# Altium footprint library PASSIVE_SMD.PCBLIB: 249 footprints (part 16 of 16)
Each footprint in its own frame and in the unit in brackets; x right, y up, seen from the top. Pads: shape width x height; smd on the part's side, far side on the other; paste and mask are expansions set on the pad; w line width, h text height; cw(c..) or ccw(c..) is an arc to the next point about the centre after c.
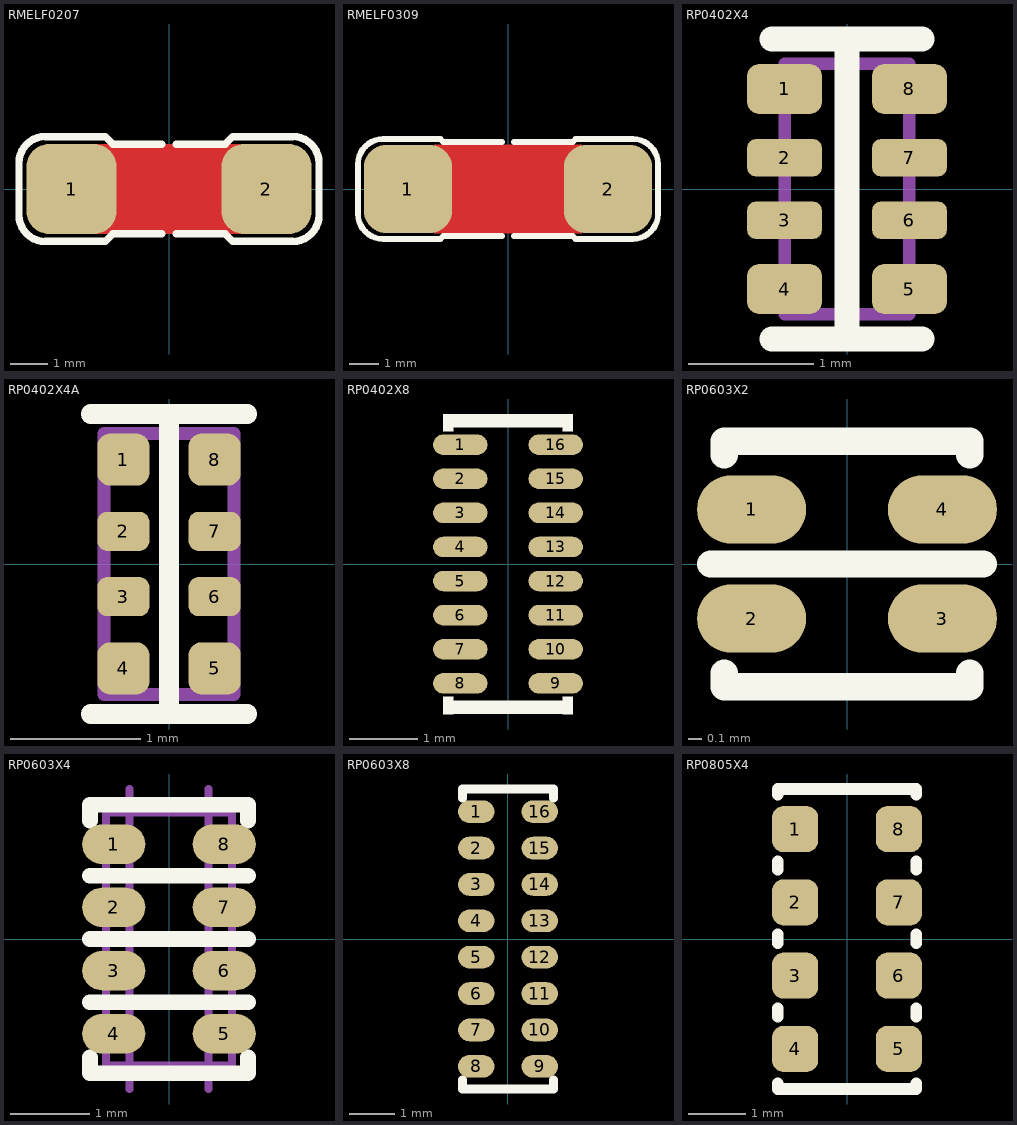
[diagram p15: the footprints below, top view; thin cyan lines are the x and y axes]

## RMELF0207 [mm] "RESISTOR, MELF 0207, as 2512, 1WATT, L5.9xD2.4mm"
height 2
pads (2):
  rrect50% 2.4x2.4 smd paste-1.2 mask+0.075: 1(-2.6,0) 2(2.6,0)
Top Layer:
  pour cut-out: -1.9,1.2 -1.9,-1.2 1.9,-1.2 1.9,1.2
Top Overlay:
  lines w0.2: -0.2,-1.2 -1.5,-1.2 -1.7,-1.4 -3.3,-1.4 cw(c-3.3,-0.7) -4,-0.7 -4,0.7 cw(c-3.3,0.7) -3.3,1.4 -1.7,1.4 -1.5,1.2 -0.2,1.2 ; 0.2,-1.2 1.5,-1.2 1.7,-1.4 3.3,-1.4 ccw(c3.3,-0.7) 4,-0.7 4,0.7 ccw(c3.3,0.7) 3.3,1.4 1.7,1.4 1.5,1.2 0.2,1.2
Top Paste:
  region: 3.2,1 2.6,1 2.502,1 2.308,0.962 2.126,0.886 1.963,0.777 1.823,0.637 1.714,0.474 1.638,0.292 1.6,0.098 1.6,0 1.6,-0.098 1.638,-0.292 1.714,-0.474 1.823,-0.637 1.963,-0.777 2.126,-0.886 2.308,-0.962 2.502,-1 2.6,-1 3.2,-1 3.28,-1 3.427,-0.939 3.539,-0.827 3.6,-0.68 3.6,-0.6 3.6,0.6 3.6,0.68 3.539,0.827 3.427,0.939 3.28,1
  region: -3.2,1 -2.6,1 -2.502,1 -2.308,0.962 -2.126,0.886 -1.963,0.777 -1.823,0.637 -1.714,0.474 -1.638,0.292 -1.6,0.098 -1.6,0 -1.6,-0.098 -1.638,-0.292 -1.714,-0.474 -1.823,-0.637 -1.963,-0.777 -2.126,-0.886 -2.308,-0.962 -2.502,-1 -2.6,-1 -3.2,-1 -3.28,-1 -3.427,-0.939 -3.539,-0.827 -3.6,-0.68 -3.6,-0.6 -3.6,0.6 -3.6,0.68 -3.539,0.827 -3.427,0.939 -3.28,1
Mechanical 15:
  lines w0.1: -0.5,0 0.5,0 ; 0,-0.5 0,0.5 ; -2.4,-1 -2.4,1 2.4,1 2.4,-1 -2.4,-1
3D body "MELF_0207-1.STEP": height 2.2, standoff 0, extent -2.65,-1.1 2.65,1.1

## RMELF0309 [mm] "RESISTOR, MELF 0309, 2WATT, L8.5xD3.4mm"
height 2
pads (2):
  rrect50% 3x3 smd paste-1.5 mask+0.075: 1(-3.4,0) 2(3.4,0)
Top Layer:
  pour cut-out: -2.5,1.5 -2.5,-1.5 2.5,-1.5 2.5,1.5
Top Overlay:
  lines w0.2: -0.2,-1.6 -2.2,-1.6 -2.3,-1.7 -4.25,-1.7 cw(c-4.25,-0.85) -5.1,-0.85 -5.1,0.85 cw(c-4.25,0.85) -4.25,1.7 -2.3,1.7 -2.2,1.6 -0.2,1.6 ; 0.2,-1.6 2.2,-1.6 2.3,-1.7 4.25,-1.7 ccw(c4.25,-0.85) 5.1,-0.85 5.1,0.85 ccw(c4.25,0.85) 4.25,1.7 2.3,1.7 2.2,1.6 0.2,1.6
Top Paste:
  region: -2.1,0 -2.1,0.128 -2.15,0.379 -2.248,0.616 -2.39,0.829 -2.571,1.01 -2.784,1.152 -3.021,1.25 -3.272,1.3 -3.4,1.3 -4,1.3 -4.069,1.3 -4.204,1.273 -4.332,1.22 -4.446,1.144 -4.544,1.046 -4.62,0.932 -4.673,0.804 -4.7,0.669 -4.7,0.6 -4.7,-0.6 -4.7,-0.669 -4.673,-0.804 -4.62,-0.932 -4.544,-1.046 -4.446,-1.144 -4.332,-1.22 -4.204,-1.273 -4.069,-1.3 -4,-1.3 -3.4,-1.3 -3.272,-1.3 -3.021,-1.25 -2.784,-1.152 -2.571,-1.01 -2.39,-0.829 -2.248,-0.616 -2.15,-0.379 -2.1,-0.128
  region: 2.1,0 2.1,0.128 2.15,0.379 2.248,0.616 2.39,0.829 2.571,1.01 2.784,1.152 3.021,1.25 3.272,1.3 3.4,1.3 4,1.3 4.069,1.3 4.204,1.273 4.332,1.22 4.446,1.144 4.544,1.046 4.62,0.932 4.673,0.804 4.7,0.669 4.7,0.6 4.7,-0.6 4.7,-0.669 4.673,-0.804 4.62,-0.932 4.544,-1.046 4.446,-1.144 4.332,-1.22 4.204,-1.273 4.069,-1.3 4,-1.3 3.4,-1.3 3.272,-1.3 3.021,-1.25 2.784,-1.152 2.571,-1.01 2.39,-0.829 2.248,-0.616 2.15,-0.379 2.1,-0.128
Mechanical 15:
  lines w0.1: -0.5,0 0.5,0 ; 0,-0.5 0,0.5 ; -2.4,-1 -2.4,1 2.4,1 2.4,-1 -2.4,-1
3D body "melf_res_0309.STEP": height 2.99, standoff 0.01, extent -4.25,-1.5 4.25,1.5

## RP0402X4 [mm] "RPACK, 0804, 0402X4, 100X50X4, 2.00x1.00mm"
height 0.4
pads (8):
  rrect50% 0.6x0.4 smd paste-0.05 mask+0.05: 1(-0.5,0.8) 4(-0.5,-0.8) 5(0.5,-0.8) 8(0.5,0.8)
  rrect50% 0.6x0.3 smd paste-0.05 mask+0.05: 2(-0.5,0.25) 3(-0.5,-0.25) 6(0.5,-0.25) 7(0.5,0.25)
Top Overlay:
  lines w0.2: -0.6,-1.2 0.6,-1.2 ; -0.6,1.2 0.6,1.2 ; 0,-1.1 0,1.1
Mechanical 13:
  lines w0.1: -0.5,-1 0.5,-1 0.5,1 -0.5,1 -0.5,-1
3D body "User Library-YC124-1.step": height 0.45, standoff 0, extent -0.5,-1 0.5,1

## RP0402X4A [mm] "RPACK, 0804, 0402X4, 100X50X4, 2.00x1.00mm"
height 0.4
pads (8):
  rrect50% 0.4x0.4 smd paste-0.05 mask+0.05: 1(-0.35,0.8) 4(-0.35,-0.8) 5(0.35,-0.8) 8(0.35,0.8)
  rrect50% 0.4x0.3 smd paste-0.05 mask+0.05: 2(-0.35,0.25) 3(-0.35,-0.25) 6(0.35,-0.25) 7(0.35,0.25)
Top Overlay:
  lines w0.15: -0.6,-1.15 0.6,-1.15 ; -0.6,1.15 0.6,1.15 ; 0,-1.1 0,1.1
Mechanical 13:
  lines w0.1: -0.5,-1 -0.5,1 0.5,1 0.5,-1 -0.5,-1
3D body "User Library-YC124-1.step": height 0.45, standoff 0, extent -0.5,-1 0.5,1

## RP0402X8 [mm] "RPACK, 0402X8, 4x1.6mm"
height 0.4
pads (16):
  oval 0.8x0.3 smd paste-0.05 mask+0.05: 1(-0.7,1.75) 2(-0.7,1.25) 3(-0.7,0.75) 4(-0.7,0.25) 5(-0.7,-0.25) 6(-0.7,-0.75) 7(-0.7,-1.25) 8(-0.7,-1.75) 9(0.7,-1.75) 10(0.7,-1.25) 11(0.7,-0.75) 12(0.7,-0.25) 13(0.7,0.25) 14(0.7,0.75) 15(0.7,1.25) 16(0.7,1.75)
Top Overlay:
  region: -0.8,2.2 -0.8,1.95 -0.95,1.95 -0.95,2.2
  region: 0.8,2.2 0.8,1.95 0.95,1.95 0.95,2.2
  region: 0.8,-2.2 0.8,-1.95 0.95,-1.95 0.95,-2.2
  region: -0.8,-2.2 -0.8,-1.95 -0.95,-1.95 -0.95,-2.2
  lines w0.2: -0.85,-2.1 0.85,-2.1 ; -0.85,2.1 0.85,2.1
3D body "User Library-YC248-1.step": height 0.45, standoff 0, extent -0.8,-2 0.8,2

## RP0603X2 [mm] "RPACK, 0603X2, 742C043, EXBV4V"
height 0.4
pads (4):
  oval 0.8x0.5 smd paste-0.05 mask+0.05: 1(-0.7,0.4) 2(-0.7,-0.4) 3(0.7,-0.4) 4(0.7,0.4)
Top Overlay:
  lines w0.2: -1,0 1,0 ; -0.9,-0.8 -0.9,-0.9 0.9,-0.9 0.9,-0.8 ; -0.9,0.8 -0.9,0.9 0.9,0.9 0.9,0.8
3D body "User Library-EXBV4V.step": height 0.53, standoff -0.03, extent -0.8,-0.8 0.8,0.8

## RP0603X4 [mm] "RPACK, 0603X4, 160X80X4 1206, 742C083, EXBV8V"
height 0.4
pads (8):
  oval 0.8x0.5 smd paste-0.05 mask+0.05: 1(-0.7,1.2) 2(-0.7,0.4) 3(-0.7,-0.4) 4(-0.7,-1.2) 5(0.7,-1.2) 6(0.7,-0.4) 7(0.7,0.4) 8(0.7,1.2)
Top Overlay:
  lines w0.2: -1,-1.5 -1,-1.7 1,-1.7 1,-1.5 ; -1,-0.8 1,-0.8 ; -1,0 1,0 ; -1,0.8 1,0.8 ; -1,1.5 -1,1.7 1,1.7 1,1.5
Mechanical 13:
  lines w0.1: -0.5,-1.9 -0.5,1.9 ; 0.5,-1.9 0.5,1.9 ; -0.8,-1.6 0.8,-1.6 0.8,1.6 -0.8,1.6 -0.8,-1.6
  text "0603X4" at -1.3,-2.6 h0.5
  text "4X0402" at -1.3,2.1 h0.5
3D body "User Library-Array-1206-4Way-Var1.STEP": height 0.5, standoff 0, extent -0.8,-1.6 0.8,1.6

## RP0603X8 [mm] "RPACK, 0603X8, 742C163, EXB2HV"
height 0.4
pads (16):
  oval 0.8x0.5 smd paste-0.05 mask+0.05: 1(-0.7,2.8) 2(-0.7,2) 3(-0.7,1.2) 4(-0.7,0.4) 5(-0.7,-0.4) 6(-0.7,-1.2) 7(-0.7,-2) 8(-0.7,-2.8) 9(0.7,-2.8) 10(0.7,-2) 11(0.7,-1.2) 12(0.7,-0.4) 13(0.7,0.4) 14(0.7,1.2) 15(0.7,2) 16(0.7,2.8)
Top Overlay:
  lines w0.2: -1,-3.1 -1,-3.3 1,-3.3 1,-3.1 ; -1,3.1 -1,3.3 1,3.3 1,3.1
3D body "User Library-742C163.step": height 0.53, standoff -0.03, extent -0.8,-3.2 0.8,3.2

## RP0805X4 [mm] "RPACK, 0805X4, EXBS8V"
height 0.4
pads (8):
  rrect50% 0.8x0.8 smd paste-0.05 mask+0.05: 1(-0.9,1.905) 2(-0.9,0.635) 3(-0.9,-0.635) 4(-0.9,-1.905) 5(0.9,-1.905) 6(0.9,-0.635) 7(0.9,0.635) 8(0.9,1.905)
Top Overlay:
  lines w0.2: -1.2,-2.5 -1.2,-2.6 1.2,-2.6 1.2,-2.5 ; -1.2,-1.35 -1.2,-1.2 ; -1.2,-0.07 -1.2,0.08 ; -1.2,1.2 -1.2,1.35 ; -1.2,2.5 -1.2,2.6 1.2,2.6 1.2,2.5 ; 1.2,-1.35 1.2,-1.2 ; 1.2,-0.07 1.2,0.08 ; 1.2,1.2 1.2,1.35
3D body "RP0805X4_EXBS8V.step": height 0.35, standoff -0.03, extent -1.1,-2.54 1.1,2.54